# Altium footprint library IntergratedCircuits.PcbLib: 19 footprints (part 1 of 2)
Each footprint in its own frame and in the unit in brackets; x right, y up, seen from the top. Pads: shape width x height; smd on the part's side, far side on the other; paste and mask are expansions set on the pad; w line width, h text height; cw(c..) or ccw(c..) is an arc to the next point about the centre after c.
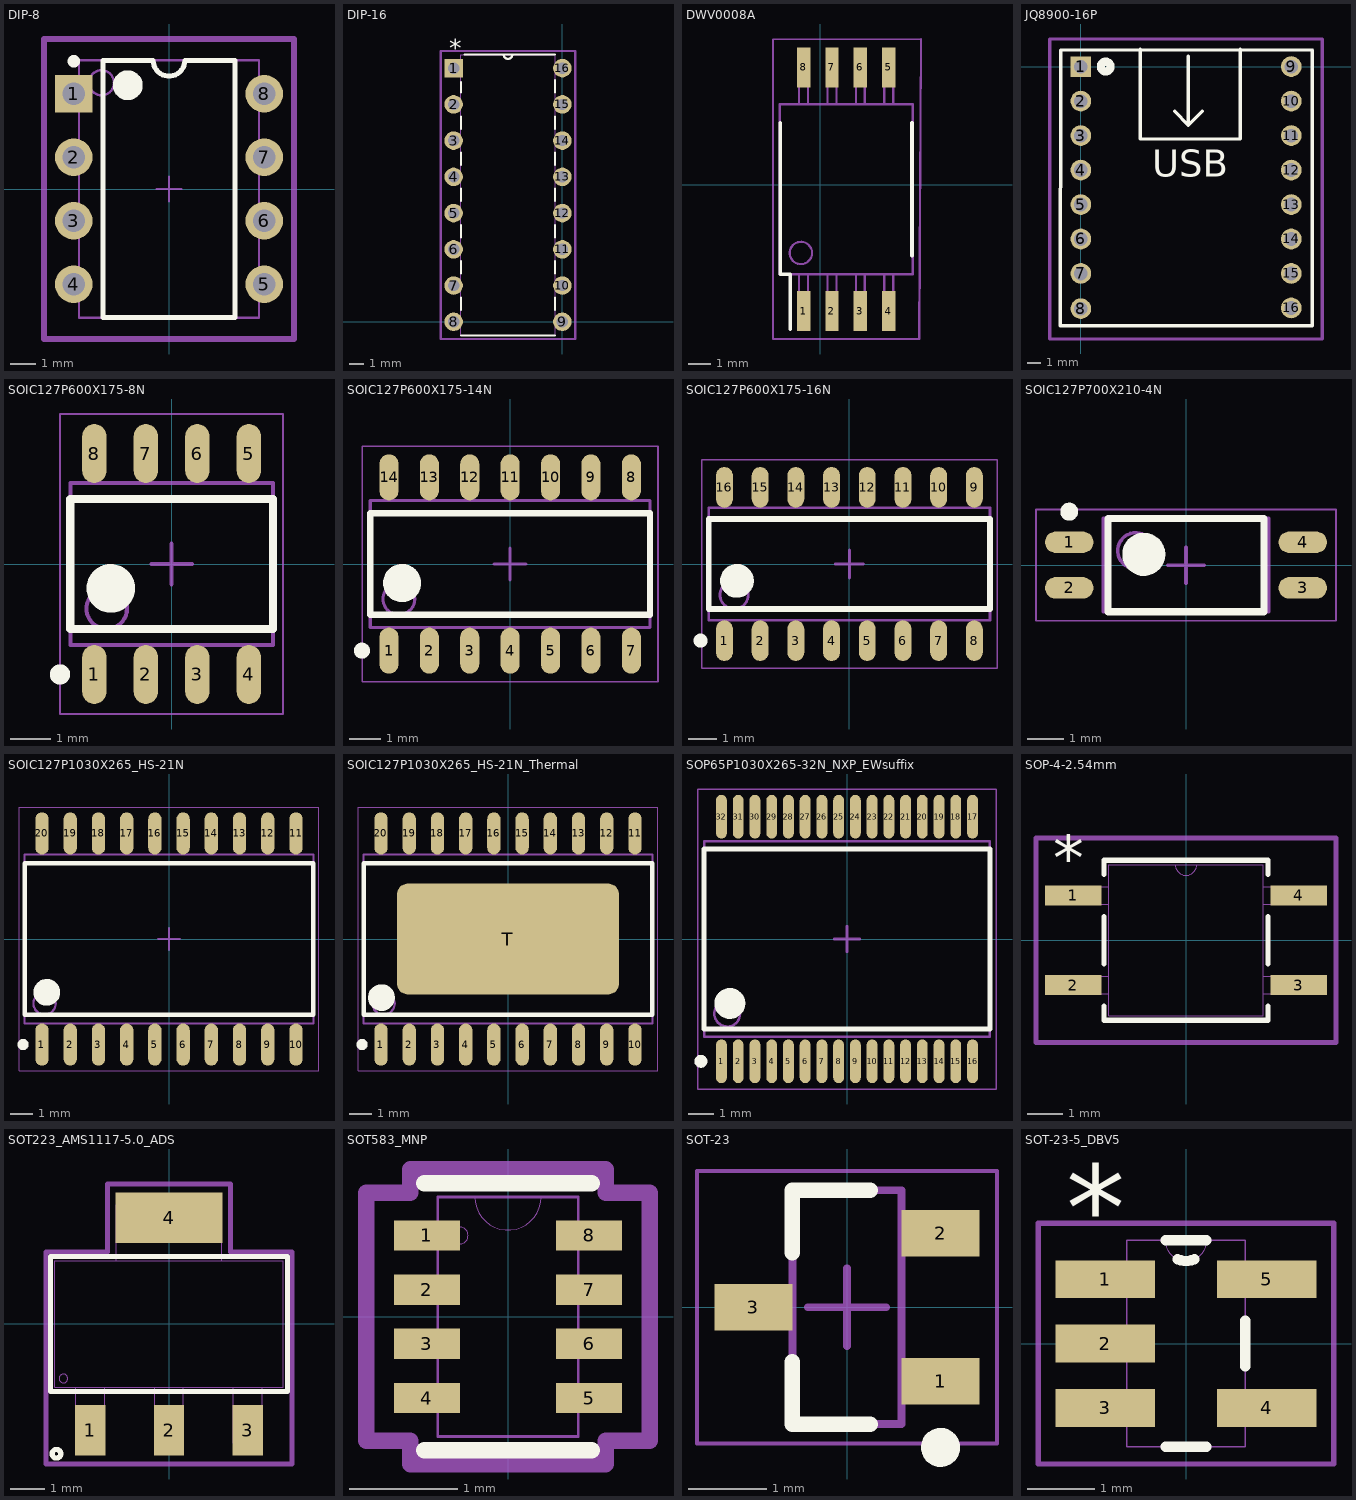
[diagram p0: the footprints below, top view; thin cyan lines are the x and y axes]

## DIP-8 [mm] "DIP; 8 Leads; Row Spacing 7.62 mm; Pitch 2.54 mm"
height 5.08
pads (8):
  rect 1.5x1.5 hole 0.9: 1(-3.81,3.81)
  round 1.5 hole 0.9: 2(-3.81,1.27) 3(-3.81,-1.27) 4(-3.81,-3.81) 5(3.81,-3.81) 6(3.81,-1.27) 7(3.81,1.27) 8(3.81,3.81)
Top Overlay:
  circle w0.6: c-1.65,4.15 r0.3
  circle w0.25: c-3.81,5.11 r0.125
  lines w0.2: -2.65,-5.15 2.65,-5.15 2.65,5.15 0.635,5.15 cw(c0,5.15) -0.635,5.15 -2.65,5.15 -2.65,-5.15
Mechanical 13:
  circle w0.1: c-2.7,4.25 r0.5
  lines w0.1: -3.6,-5.15 3.6,-5.15 3.6,5.15 -3.6,5.15 -3.6,-5.15
Mechanical 15:
  lines w0.1: -0.5,0 0.5,0 ; 0,-0.5 0,0.5
  lines w0.254: -5,-6 5,-6 5,6 -5,6 -5,-6
3D body: height 5.08, standoff 0, extent -3.6,-5.15 3.6,5.15

## DIP-16 [mil]
pads (16):
  rect 51x51 / inner round 60 / far side rect 51x51 hole 31 paste-25.5 mask-25.5: 1(-300,700)
  round 51 / inner round 60 / far side round 51 hole 31 paste-25.5 mask-25.5: 2(-300,600) 3(-300,500) 4(-300,400) 5(-300,300) 6(-300,200) 7(-300,100) 8(-300,0) 9(0,0) 10(0,100) 11(0,200) 12(0,300) 13(0,400) 14(0,500) 15(0,600) 16(0,700)
Top Overlay:
  lines w6: -280,-37.5 -20,-37.5 ; -280,33.01 -280,66.99 ; -280,133.01 -280,166.99 ; -280,233.01 -280,266.99 ; -280,333.01 -280,366.99 ; -280,433.01 -280,466.99 ; -280,533.01 -280,566.99 ; -280,633.01 -280,661.4 ; -269.25,737.5 -20,737.5 ; -162,737.5 ccw(c-150,737.5) -138,737.5 ; -20,33.01 -20,66.99 ; -20,133.01 -20,166.99 ; -20,233.01 -20,266.99 ; -20,333.01 -20,366.99 ; -20,433.01 -20,466.99 ; -20,533.01 -20,566.99 ; -20,633.01 -20,666.99
  text "*" at -312.5,730.5 h50
Mechanical 13:
  lines w0: -162,737.5 ccw(c-150,737.5) -138,737.5
  lines w1: -315.5,-15.5 -280,-15.5 -280,15.5 -315.5,15.5 -315.5,-15.5 ; -315.5,84.5 -280,84.5 -280,115.5 -315.5,115.5 -315.5,84.5 ; -315.5,184.5 -280,184.5 -280,215.5 -315.5,215.5 -315.5,184.5 ; -315.5,284.5 -280,284.5 -280,315.5 -315.5,315.5 -315.5,284.5 ; -315.5,384.5 -280,384.5 -280,415.5 -315.5,415.5 -315.5,384.5 ; -315.5,484.5 -280,484.5 -280,515.5 -315.5,515.5 -315.5,484.5 ; -315.5,584.5 -280,584.5 -280,615.5 -315.5,615.5 -315.5,584.5 ; -315.5,684.5 -280,684.5 -280,715.5 -315.5,715.5 -315.5,684.5 ; -280,-37.5 -280,737.5 -20,737.5 -20,-37.5 -280,-37.5 ; -20,-15.5 15.5,-15.5 15.5,15.5 -20,15.5 -20,-15.5 ; -20,84.5 15.5,84.5 15.5,115.5 -20,115.5 -20,84.5 ; -20,184.5 15.5,184.5 15.5,215.5 -20,215.5 -20,184.5 ; -20,284.5 15.5,284.5 15.5,315.5 -20,315.5 -20,284.5 ; -20,384.5 15.5,384.5 15.5,415.5 -20,415.5 -20,384.5 ; -20,484.5 15.5,484.5 15.5,515.5 -20,515.5 -20,484.5 ; -20,584.5 15.5,584.5 15.5,615.5 -20,615.5 -20,584.5 ; -20,684.5 15.5,684.5 15.5,715.5 -20,715.5 -20,684.5
  text "*" at -312.5,730.5 h50
Mechanical 15:
  lines w6: -335.5,-47.5 -335.5,747.5 35.5,747.5 35.5,-47.5 -335.5,-47.5
3D body "N16.step": height 205.12, standoff -100, extent -310,-37.48 10,737.48

## DWV0008A [mm]
pads (8):
  rect 0.6x1.8 smd paste+0 mask+0.051: 1(-0.755,-5.65) 2(0.515,-5.65) 3(1.785,-5.65) 4(3.055,-5.65) 5(3.055,5.25) 6(1.785,5.25) 7(0.515,5.25) 8(-0.755,5.25)
Top Overlay:
  lines w0.17: -1.8,2.775 -1.8,-4 -1.35,-4 -1.35,-6.45 ; 4.1,-3.175 4.1,2.775
Mechanical 13:
  circle w0.1: c-0.875,-3.05 r0.5
  lines w0.1: -0.955,-4.005 -0.955,-6 -0.555,-6 -0.555,-4.005 ; -0.955,3.605 -0.955,5.6 -0.555,5.6 -0.555,3.605 ; 0.315,-4.005 0.315,-6 0.715,-6 0.715,-4.005 ; 0.315,3.605 0.315,5.6 0.715,5.6 0.715,3.605 ; 1.585,-4.005 1.585,-6 1.985,-6 1.985,-4.005 ; 1.585,3.605 1.585,5.6 1.985,5.6 1.985,3.605 ; 2.855,-4.005 2.855,-6 3.255,-6 3.255,-4.005 ; 2.855,3.605 2.855,5.6 3.255,5.6 3.255,3.605 ; -1.825,-4 4.125,-4 4.125,3.6 -1.825,3.6 -1.825,-4
Mechanical 15:
  lines w0.1: -2.125,-6.9 4.425,-6.9 4.5,6.525 -2.125,6.5 -2.125,-6.9
3D body "DWV0008A.stp": height 2.67, standoff -0.03, extent -1.75,-5.968 4.1,5.568

## JQ8900-16P [mil]
pads (16):
  rect 59.06x59.06 hole 39.37: 1(0,0)
  round 60 hole 39.37: 2(0,-100) 3(0,-200) 4(0,-300) 5(0,-400) 6(0,-500) 7(0,-600) 8(0,-701.97) 9(610.24,0) 10(610.24,-100) 11(610.24,-200) 12(610.24,-300) 13(610.24,-400) 14(610.24,-500) 15(610.24,-600) 16(610.24,-700)
Top Overlay:
  circle w23.62: c72.13,0 r14.14
  lines w10: 172.13,50 172.13,-210 462.13,-210 462.13,50 ; 272.13,-130 312.13,-170 ; 312.13,30 312.13,-170 ; 352.13,-130 312.13,-170 ; 669.76,-751.97 -59.06,-751.97 -57.88,48.03 670.94,48.03 ; 670.94,-751.97 670.94,48.03 ; 670.94,48.03 670.94,48.03
  text "USB" at 207.17,-319.36 h78.74
Mechanical 15:
  lines w10: -90,-790 700,-790 700,80 -90,80 -90,-790
3D body: height 195.08, standoff 0, extent -58.47,-751.97 670.94,50

## SOIC127P600X175-8N [mm] "SOIC, 8-Leads, Body 4.90x3.89mm, Pitch 1.27mm, IPC Medium Density"
height 1.75
pads (8):
  oval 0.6x1.45 smd: 1(-1.905,-2.725) 2(-0.635,-2.725) 3(0.635,-2.725) 4(1.905,-2.725) 5(1.905,2.725) 6(0.635,2.725) 7(-0.635,2.725) 8(-1.905,2.725)
Top Overlay:
  circle w0.25: c-2.755,-2.725 r0.125
  circle w0.6: c-1.5,-0.6 r0.3
  lines w0.2: -2.5,-1.6 2.5,-1.6 2.5,1.6 -2.5,1.6 -2.5,-1.6
Mechanical 13:
  circle w0.1: c-1.6,-1.1 r0.5
  lines w0.1: -2.5,-2 2.5,-2 2.5,2 -2.5,2 -2.5,-2
Mechanical 15:
  lines w0.05: -2.75,-3.7 2.75,-3.7 2.75,3.7 -2.75,3.7 -2.75,-3.7
  lines w0.1: -0.5,0 0.5,0 ; 0,-0.5 0,0.5
3D body "SOIC08 narrow.stp": height 2, standoff 0, extent -2.5,-3.082 2.5,3.082

## SOIC127P600X175-14N [mm] "SOIC, 14-Leads, Body 8.65x3.90mm, Pitch 1.27mm, IPC Medium Density"
height 1.75
pads (14):
  oval 0.6x1.45 smd: 1(-3.81,-2.725) 2(-2.54,-2.725) 3(-1.27,-2.725) 4(0,-2.725) 5(1.27,-2.725) 6(2.54,-2.725) 7(3.81,-2.725) 8(3.81,2.725) 9(2.54,2.725) 10(1.27,2.725) 11(0,2.725) 12(-1.27,2.725) 13(-2.54,2.725) 14(-3.81,2.725)
Top Overlay:
  circle w0.25: c-4.66,-2.725 r0.125
  circle w0.6: c-3.4,-0.6 r0.3
  lines w0.2: -4.4,-1.6 4.4,-1.6 4.4,1.6 -4.4,1.6 -4.4,-1.6
Mechanical 13:
  circle w0.1: c-3.5,-1.1 r0.5
  lines w0.1: -4.4,-2 4.4,-2 4.4,2 -4.4,2 -4.4,-2
Mechanical 15:
  lines w0.05: -4.65,-3.7 4.65,-3.7 4.65,3.7 -4.65,3.7 -4.65,-3.7
  lines w0.1: -0.5,0 0.5,0 ; 0,-0.5 0,0.5
3D body "S014.stp": height 1.55, standoff 0, extent -4.325,-3 4.325,3

## SOIC127P600X175-16N [mm] "SOIC, 16-Leads, Body 9.90x3.90mm, Pitch 1.27mm, IPC Medium Density"
height 1.75
pads (16):
  oval 0.6x1.45 smd: 1(-4.445,-2.725) 2(-3.175,-2.725) 3(-1.905,-2.725) 4(-0.635,-2.725) 5(0.635,-2.725) 6(1.905,-2.725) 7(3.175,-2.725) 8(4.445,-2.725) 9(4.445,2.725) 10(3.175,2.725) 11(1.905,2.725) 12(0.635,2.725) 13(-0.635,2.725) 14(-1.905,2.725) 15(-3.175,2.725) 16(-4.445,2.725)
Top Overlay:
  circle w0.6: c-4,-0.6 r0.3
  circle w0.25: c-5.295,-2.725 r0.125
  lines w0.2: -5,-1.6 -5,1.6 5,1.6 5,-1.6 -5,-1.6
Mechanical 13:
  circle w0.1: c-4.1,-1.1 r0.5
  lines w0.1: -5,-2 -5,2 5,2 5,-2 -5,-2
Mechanical 15:
  lines w0.05: -5.25,-3.7 -5.25,3.7 5.25,3.7 5.25,-3.7 -5.25,-3.7
  lines w0.1: -0.5,0 0.5,0 ; 0,-0.5 0,0.5
3D body "S016.stp": height 1.55, standoff 0, extent -4.95,-3 4.95,3

## SOIC127P700X210-4N [mm] "SOIC, 4-Leads, Body 2.60x4.55mm, Pitch 1.27mm, IPC Medium Density"
height 2.1
pads (4):
  oval 1.35x0.6 smd: 1(-3.25,0.635) 2(-3.25,-0.635) 3(3.25,-0.635) 4(3.25,0.635)
Top Overlay:
  circle w0.6: c-1.175,0.3 r0.3
  circle w0.25: c-3.25,1.485 r0.125
  lines w0.2: -2.175,-1.3 2.175,-1.3 2.175,1.3 -2.175,1.3 -2.175,-1.3
Mechanical 13:
  circle w0.1: c-1.4,0.4 r0.5
  lines w0.1: -2.3,-1.3 2.3,-1.3 2.3,1.3 -2.3,1.3 -2.3,-1.3
Mechanical 15:
  lines w0.05: -4.175,-1.55 4.175,-1.55 4.175,1.55 -4.175,1.55 -4.175,-1.55
  lines w0.1: -0.5,0 0.5,0 ; 0,-0.5 0,0.5
3D body: height 2.1, standoff 0.1, extent -2.3,-1.3 2.3,1.3
3D body "SO4.step": height 2.2, standoff 0, extent -3.556,-1.3 3.444,1.3

## SOIC127P1030X265_HS-21N [mm] "SOIC, 20-Leads, Body 12.80x7.50mm, Pitch 1.27mm, Thermal Pad 0.00x0.00mm, IPC Medium Density"
height 2.65
pads (20):
  oval 0.6x1.9 smd: 1(-5.715,-4.75) 2(-4.445,-4.75) 3(-3.175,-4.75) 4(-1.905,-4.75) 5(-0.635,-4.75) 6(0.635,-4.75) 7(1.905,-4.75) 8(3.175,-4.75) 9(4.445,-4.75) 10(5.715,-4.75) 11(5.715,4.75) 12(4.445,4.75) 13(3.175,4.75) 14(1.905,4.75) 15(0.635,4.75) 16(-0.635,4.75) 17(-1.905,4.75) 18(-3.175,4.75) 19(-4.445,4.75) 20(-5.715,4.75)
Top Overlay:
  circle w0.25: c-6.565,-4.75 r0.125
  circle w0.6: c-5.5,-2.4 r0.3
  lines w0.2: -6.5,-3.4 6.5,-3.4 6.5,3.4 -6.5,3.4 -6.5,-3.4
Mechanical 13:
  circle w0.1: c-5.6,-2.9 r0.5
  lines w0.1: -6.5,-3.8 6.5,-3.8 6.5,3.8 -6.5,3.8 -6.5,-3.8
Mechanical 15:
  lines w0.05: -6.75,-5.925 6.75,-5.925 6.75,5.925 -6.75,5.925 -6.75,-5.925
  lines w0.1: -0.5,0 0.5,0 ; 0,-0.5 0,0.5
3D body "User Library-SOIC20.step": height 2.25, standoff 0.01, extent -6.3,-5.067 6.3,5.067

## SOIC127P1030X265_HS-21N_Thermal [mm] "SOIC, 20-Leads, Body 12.80x7.50mm, Pitch 1.27mm, Thermal Pad 0.00x0.00mm, IPC Medium Density"
height 2.65
pads (21):
  oval 0.6x1.9 smd: 1(-5.715,-4.75) 2(-4.445,-4.75) 3(-3.175,-4.75) 4(-1.905,-4.75) 5(-0.635,-4.75) 6(0.635,-4.75) 7(1.905,-4.75) 8(3.175,-4.75) 9(4.445,-4.75) 10(5.715,-4.75) 11(5.715,4.75) 12(4.445,4.75) 13(3.175,4.75) 14(1.905,4.75) 15(0.635,4.75) 16(-0.635,4.75) 17(-1.905,4.75) 18(-3.175,4.75) 19(-4.445,4.75) 20(-5.715,4.75)
  rrect20% 10x5 smd: T(0,0)
Top Overlay:
  circle w0.25: c-6.565,-4.75 r0.125
  circle w0.6: c-5.696,-2.636 r0.3
  lines w0.2: -6.5,-3.4 6.5,-3.4 6.5,3.4 -6.5,3.4 -6.5,-3.4
Mechanical 13:
  circle w0.1: c-5.6,-2.9 r0.5
  lines w0.1: -6.5,-3.8 6.5,-3.8 6.5,3.8 -6.5,3.8 -6.5,-3.8
Mechanical 15:
  lines w0.05: -6.75,-5.925 6.75,-5.925 6.75,5.925 -6.75,5.925 -6.75,-5.925
  lines w0.1: -0.5,0 0.5,0 ; 0,-0.5 0,0.5
3D body "User Library-SOIC20.step": height 2.25, standoff 0.01, extent -6.3,-5.067 6.3,5.067

## SOP65P1030X265-32N_NXP_EWsuffix [mm] "SOP, 32-Leads, Body 11.00x7.50mm, Pitch 0.65mm, IPC Medium Density"
height 2.65
pads (32):
  oval 0.42x1.7 smd mask+0.12: 1(-4.875,-4.75) 2(-4.225,-4.75) 3(-3.575,-4.75) 4(-2.925,-4.75) 5(-2.275,-4.75) 6(-1.625,-4.75) 7(-0.975,-4.75) 8(-0.325,-4.75) 9(0.325,-4.75) 10(0.975,-4.75) 11(1.625,-4.75) 12(2.275,-4.75) 13(2.925,-4.75) 14(3.575,-4.75) 15(4.225,-4.75) 16(4.875,-4.75) 17(4.875,4.75) 18(4.225,4.75) 19(3.575,4.75) 20(2.925,4.75) 21(2.275,4.75) 22(1.625,4.75) 23(0.975,4.75) 24(0.325,4.75) 25(-0.325,4.75) 26(-0.975,4.75) 27(-1.625,4.75) 28(-2.275,4.75) 29(-2.925,4.75) 30(-3.575,4.75) 31(-4.225,4.75) 32(-4.875,4.75)
Top Overlay:
  circle w0.6: c-4.55,-2.5 r0.3
  circle w0.25: c-5.675,-4.75 r0.125
  lines w0.2: -5.55,-3.5 -5.55,3.5 5.55,3.5 5.55,-3.5 -5.55,-3.5
Mechanical 13:
  circle w0.1: c-4.65,-2.9 r0.5
  lines w0.1: -5.55,-3.8 -5.55,3.8 5.55,3.8 5.55,-3.8 -5.55,-3.8
Mechanical 15:
  lines w0.05: -5.8,-5.825 -5.8,5.825 5.8,5.825 5.8,-5.825 -5.8,-5.825
  lines w0.1: -0.5,0 0.5,0 ; 0,-0.5 0,0.5
3D body: height 2.65, standoff 0.1, extent -5.55,-3.8 5.55,3.8

## SOP-4-2.54mm [mil]
pads (4):
  rect 63x22 smd paste+0 mask+0: 1(-126,50) 2(-126,-50) 3(126,-50) 4(126,50)
Top Overlay:
  lines w6: -91.5,-73.75 -91.5,-89.5 91.5,-89.5 91.5,-73.75 ; -91.5,-26.25 -91.5,26.25 ; -91.5,73.75 -91.5,89.5 91.5,89.5 91.5,73.75 ; 91.5,-26.25 91.5,26.25
  text "*" at -148.5,67 h50
Mechanical 13:
  lines w0: -12,84.5 ccw(c0,84.5) 12,84.5
  lines w1: -143.5,-60 -86.5,-60 -86.5,-40 -143.5,-40 -143.5,-60 ; -143.5,40 -86.5,40 -86.5,60 -143.5,60 -143.5,40 ; -86.5,-84.5 -86.5,84.5 86.5,84.5 86.5,-84.5 -86.5,-84.5 ; 86.5,-60 143.5,-60 143.5,-40 86.5,-40 86.5,-60 ; 86.5,40 143.5,40 143.5,60 86.5,60 86.5,40
  text "*" at -84,31.5 h50
Mechanical 15:
  lines w6: -167.5,-114.19 -96.5,-114.19 96.5,-114.19 167.5,-114.19 167.5,114.19 96.5,114.19 -96.5,114.19 -167.5,114.19 -167.5,-114.19
3D body "EL357NCTA-VG_EVE.step": height 79.09, standoff 0, extent -143.5,-84.49 143.5,84.49

## SOT223_AMS1117-5.0_ADS [mil]
pads (4):
  rect 35x58 smd paste+0 mask+0: 1(-91,-122.8) 2(0,-122.8) 3(91,-122.8)
  rect 124x58 smd paste+0 mask+0: 4(0,122.8)
Top Overlay:
  circle w6: c-130,-150 r5
  lines w6: -137,-78 137,-78 137,78 -137,78 -137,-78
Mechanical 13:
  circle w0: c-122,-63 r5
  lines w1: -132,-73 132,-73 132,73 -132,73 -132,-73 ; -107.5,-137.8 -107.5,-73 -74.5,-73 -74.5,-137.8 -107.5,-137.8 ; -61,73 61,73 61,137.8 -61,137.8 -61,73 ; -16.5,-137.8 -16.5,-73 16.5,-73 16.5,-137.8 -16.5,-137.8 ; 74.5,-137.8 74.5,-73 107.5,-73 107.5,-137.8 74.5,-137.8
Mechanical 15:
  lines w6: -142,-161.8 142,-161.8 142,-83 142,83 71,83 71,161.8 -71,161.8 -71,83 -142,83 -142,-83 -142,-161.8
3D body "SOT223_AMS1117-50_ADS.step": height 71.1, standoff 0, extent -132.01,-137.8 132.01,137.8

## SOT583_MNP [mil]
pads (8):
  rect 24x11 smd paste+0 mask+0: 1(-29.5,29.53) 2(-29.5,9.84) 3(-29.5,-9.84) 4(-29.5,-29.53) 5(29.5,-29.53) 6(29.5,-9.84) 7(29.5,9.84) 8(29.5,29.53)
Top Overlay:
  lines w6: -30.5,-48.5 30.5,-48.5 ; -30.5,48.5 30.5,48.5
Mechanical 13:
  circle w0: c-17.5,29.53 r3
  lines w0: -12,43.5 ccw(c0,43.5) 12,43.5
  lines w1: -25.5,-43.5 25.5,-43.5 25.5,43.5 -25.5,43.5 -25.5,-43.5
Mechanical 15:
  lines w6: -51.5,-45.03 -35.5,-45.03 -35.5,-53.5 35.5,-53.5 35.5,-45.03 51.5,-45.03 51.5,45.03 35.5,45.03 35.5,53.5 -35.5,53.5 -35.5,45.03 -51.5,45.03 -51.5,-45.03
3D body "SOT583_MP2328_MNP.step": height 22.09, standoff 0, extent -33.5,-43.5 33.51,43.51

## SOT-23 [mm] "SOT23, 3-Leads, Body 2.90x2.45mm, Pitch 0.95mm, IPC Medium Density"
height 1.1
pads (3):
  rect 1x0.6 smd: 1(1.2,-0.95) 2(1.2,0.95) 3(-1.2,0)
Top Overlay:
  circle w0.25: c1.2,-1.8 r0.125
  lines w0.2: -0.7,-0.7 -0.7,-1.5 0.3,-1.5 ; -0.7,0.7 -0.7,1.5 0.3,1.5
Mechanical 13:
  lines w0.1: -0.7,-1.5 -0.7,1.5 0.7,1.5 0.7,-1.5 -0.7,-1.5
Mechanical 15:
  lines w0.05: -1.925,-1.75 -1.925,1.75 1.925,1.75 1.925,-1.75 -1.925,-1.75
  lines w0.1: -0.5,0 0.5,0 ; 0,-0.5 0,0.5
3D body "User Library-sot-3p290x130ll237h100.STEP": height 1, standoff 0, extent -1.185,-1.45 1.185,1.45

## SOT-23-5_DBV5 [mil]
pads (5):
  rect 58x22 smd: 1(-47,37.4) 2(-47,0) 3(-47,-37.4) 4(47,-37.4) 5(47,37.4)
Top Overlay:
  lines w6: -11.91,-60 11.91,-60 ; -11.91,60 11.91,60 ; -4.92,49.05 ccw(c0,60) 4.92,49.05 ; 34.5,-13.3 34.5,13.3
  text "*" at -69.5,54.4 h50
Mechanical 13:
  lines w0: -12,60 ccw(c0,60) 12,60
  lines w1: -59,-47.4 -59,-27.4 -34.5,-27.4 -34.5,-47.4 -59,-47.4 ; -59,-10 -59,10 -34.5,10 -34.5,-10 -59,-10 ; -59,27.4 -59,47.4 -34.5,47.4 -34.5,27.4 -59,27.4 ; -34.5,-60 34.5,-60 34.5,60 -34.5,60 -34.5,-60 ; 34.5,-47.4 34.5,-27.4 59,-27.4 59,-47.4 34.5,-47.4 ; 34.5,27.4 34.5,47.4 59,47.4 59,27.4 34.5,27.4
  text "*" at -69.5,54.4 h50
Mechanical 15:
  lines w3.15: -86,-70 -86,70 86,70 86,-70 -86,-70
3D body "DBV5.step": height 57.09, standoff 0, extent -59.01,-60 59.02,60